# Altium footprint library resistor.PcbLib: 1 footprints
Each footprint in its own frame and in the unit in brackets; x right, y up, seen from the top. Pads: shape width x height; smd on the part's side, far side on the other; paste and mask are expansions set on the pad; w line width, h text height; cw(c..) or ccw(c..) is an arc to the next point about the centre after c.
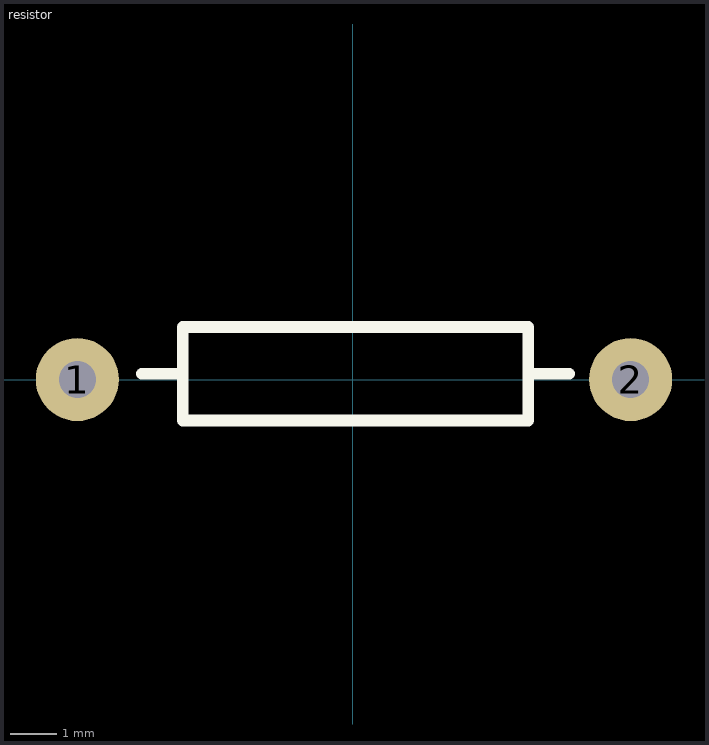
[diagram p0: the footprint, top view; thin cyan lines are the x and y axes]

## resistor [mm]
pads (2):
  round 1.8 hole 0.8: 1(-5.969,0) 2(6.031,0)
Top Overlay:
  lines w0.254: -4.572,0.127 -3.683,0.127 ; 3.81,0.127 4.699,0.127 ; -3.683,-0.889 3.81,-0.889 3.81,1.143 -3.683,1.143 -3.683,-0.889